# Altium footprint library BASIC Library.PCBLIB: 464 footprints (part 28 of 30)
Each footprint in its own frame and in the unit in brackets; x right, y up, seen from the top. Pads: shape width x height; smd on the part's side, far side on the other; paste and mask are expansions set on the pad; w line width, h text height; cw(c..) or ccw(c..) is an arc to the next point about the centre after c.
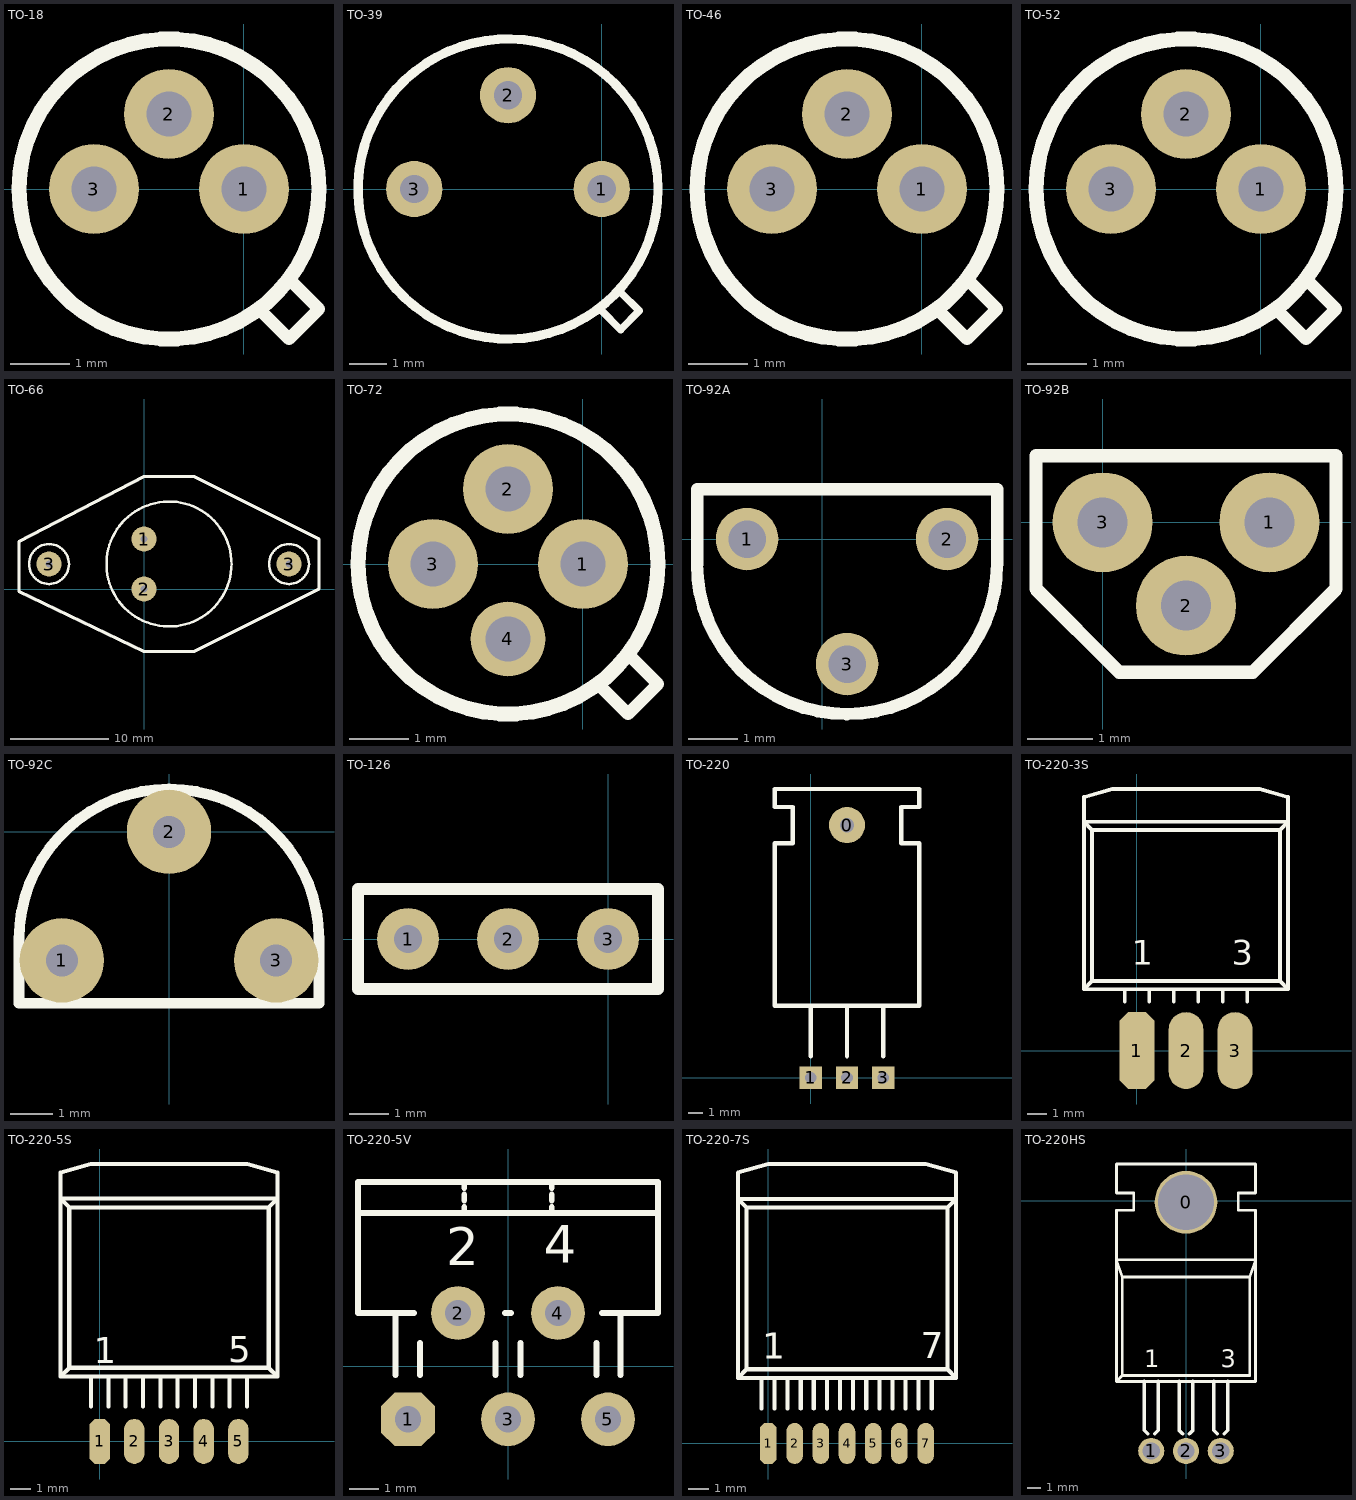
[diagram p27: the footprints below, top view; thin cyan lines are the x and y axes]

## TO-18 [mil]
pads (3):
  round 60 hole 30: 1(0,0) 2(-50,50) 3(-100,0)
TopOverlay:
  circle w10: c-50,0 r100
  lines w8: 10,-80 30,-100 50,-80 30,-60

## TO-39 [mil]
pads (3):
  round 60 hole 30: 1(0,0) 2(-100,100) 3(-200,0)
TopOverlay:
  circle w10: c-100,0 r160
  lines w8: 0,-130 20,-150 40,-130 20,-110

## TO-46 [mil]
pads (3):
  round 60 hole 30: 1(0,0) 2(-50,50) 3(-100,0)
TopOverlay:
  circle w10: c-50,0 r100
  lines w8: 10,-80 30,-100 50,-80 30,-60

## TO-52 [mil]
pads (3):
  round 60 hole 30: 1(0,0) 2(-50,50) 3(-100,0)
TopOverlay:
  circle w10: c-50,0 r100
  lines w8: 10,-80 30,-100 50,-80 30,-60

## TO-66 [mil]
pads (4):
  round 100 hole 28: 1(0,200) 2(0,0) 3(-380,100) 3(580,100)
TopOverlay:
  circle w10: c580,100 r80
  circle w10: c-380,100 r80
  circle w10: c100,100 r250
  lines w12: -500,-10 0,-250 200,-250 700,0 700,200 200,450 0,450 -500,190 -500,-10

## TO-72 [mil]
pads (4):
  round 60 hole 30: 1(0,0) 2(-50,50) 3(-100,0)
  round 50 hole 30: 4(-50,-50)
TopOverlay:
  circle w10: c-50,0 r100
  lines w8: 10,-80 30,-100 50,-80 30,-60

## TO-92A [mil]
pads (3):
  round 50 hole 30: 1(-60,0) 2(100,0) 3(20,-100)
TopOverlay:
  lines w10: -100,-20 ccw(c20,-20) 140,-20 140,40 -100,40 -100,-20

## TO-92B [mil]
pads (3):
  round 60 hole 30: 1(100,0) 2(50,-50) 3(0,0)
TopOverlay:
  lines w8: -40,-40 10,-90 90,-90 140,-40 140,40 -40,40 -40,-40

## TO-92C [mm]
pads (3):
  round 2 hole 0.762: 1(-2.54,-3.048) 2(0,0) 3(2.54,-3.048)
TopOverlay:
  lines w0.254: -3.556,-4.064 3.556,-4.064 3.556,-2.54 ccw(c0,-2.54) 0,1.016 ccw(c0,-2.54) -3.556,-2.54 -3.556,-4.064

## TO-126 [mil]
pads (3):
  round 62 hole 28: 1(-200,0) 2(-100,0) 3(0,0)
TopOverlay:
  lines w12: -250,-50 -250,50 50,50 50,-50 -250,-50

## TO-220 [mil]
pads (4):
  round 100 hole 40: 0(100,700)
  rect 62x62 hole 32: 1(0,0) 2(100,0) 3(200,0)
TopOverlay:
  lines w12: 0,60 0,200 ; 100,60 100,200 ; 200,60 200,200 ; -100,200 -100,650 -50,650 -50,750 -100,750 -100,800 300,800 300,750 250,750 250,650 300,650 300,200 -100,200

## TO-220-3S [mil]
pads (3):
  oct 70.83x156.67 smd: 1(0,0)
  oval 70.83x156.67 smd: 2(100,0) 3(200,0)
TopOverlay:
  lines w7.87: -25,100 -25,125 ; 25,100 25,125 ; 75,100 75,125 ; 125,100 125,125 ; 175,100 175,125 ; 225,100 225,125 ; -108.33,125 308.33,125 ; -108.33,125 -108.33,466.67 ; -108.33,125 -91.67,141.67 ; -108.33,466.67 308.33,466.67 ; -108.33,466.67 -108.33,516.67 -50,533.33 250,533.33 308.33,516.67 308.33,466.67 ; -108.33,466.67 -91.67,450 ; -91.67,141.67 -91.67,450 ; -91.67,141.67 291.67,141.67 ; -91.67,450 291.67,450 ; 291.67,141.67 291.67,450 ; 291.67,141.67 308.33,125 ; 291.67,450 308.33,466.67 ; 308.33,125 308.33,466.67
  text "3" at 193.03,175.05 h50
  text "1" at -10.26,175.05 h50

## TO-220-5S [mil]
pads (5):
  oct 39.17x86.67 smd: 1(0,0)
  oval 39.17x86.67 smd: 2(66.67,0) 3(133.33,0) 4(200,0) 5(266.67,0)
TopOverlay:
  lines w7.87: -16.67,66.93 -16.67,125 ; 16.67,66.93 16.67,125 ; 50,66.93 50,125 ; 83.33,66.93 83.33,125 ; 116.67,66.93 116.67,125 ; 150,66.93 150,125 ; 183.33,66.93 183.33,125 ; 216.67,66.93 216.67,125 ; 250,66.93 250,125 ; 283.33,66.93 283.33,125 ; -75,125 341.67,125 ; -75,125 -75,466.67 ; -75,125 -58.33,141.67 ; -75,466.67 341.67,466.67 ; -75,466.67 -75,516.67 -16.67,533.33 283.33,533.33 341.67,516.67 341.67,466.67 ; -75,466.67 -58.33,450 ; -58.33,141.67 -58.33,450 ; -58.33,141.67 325,141.67 ; -58.33,450 325,450 ; 325,141.67 325,450 ; 325,141.67 341.67,125 ; 325,450 341.67,466.67 ; 341.67,125 341.67,466.67
  text "1" at -11.1,150.8 h50
  text "5" at 247.1,151.89 h50

## TO-220-5V [mil]
pads (5):
  oct 71.67x71.67 hole 35: 1(-133.33,-70.83)
  round 71.67 hole 35: 2(-66.67,70.83) 3(0,-70.83) 4(66.67,70.83) 5(133.33,-70.83)
TopOverlay:
  lines w7.87: -200,204.17 200,204.17 ; -150,-11.78 -150,70.83 ; -125.46,70.83 -200,70.83 -200,245.83 200,245.83 200,70.83 125.46,70.83 ; -117.58,-11.78 -117.58,30.67 ; -58.33,204.17 -58.33,212.5 ; -58.33,220.83 -58.33,229.17 ; -58.33,237.5 -58.33,245.83 ; -16.67,-11.78 -16.67,30.67 ; -3.94,70.83 3.94,70.83 ; 16.67,-11.78 16.67,30.67 ; 58.33,204.17 58.33,212.5 ; 58.33,220.83 58.33,229.17 ; 58.33,237.5 58.33,245.83 ; 117.87,-11.78 117.87,30.67 ; 150,-11.78 150,70.83
  text "2" at -82.11,134.53 h50
  text "4" at 47.64,137.87 h50

## TO-220-7S [mil]
pads (7):
  oct 31.67x78.33 smd: 1(0,0)
  oval 31.67x78.33 smd: 2(50,0) 3(100,0) 4(150,0) 5(200,0) 6(250,0) 7(300,0)
TopOverlay:
  lines w7.87: -13.33,66.93 -13.33,125 ; 11.67,66.93 11.67,125 ; 36.67,66.93 36.67,125 ; 61.67,66.93 61.67,125 ; 86.67,66.93 86.67,125 ; 111.67,66.93 111.67,125 ; 136.67,66.93 136.67,125 ; 161.67,66.93 161.67,125 ; 186.67,66.93 186.67,125 ; 211.67,66.93 211.67,125 ; 236.67,66.93 236.67,125 ; 261.67,66.93 261.67,125 ; 286.67,66.93 286.67,125 ; 311.67,66.93 311.67,125 ; -58.33,125 -41.67,141.67 ; -58.33,125 -58.33,466.67 ; -58.33,125 358.33,125 ; -58.33,466.67 -41.67,450 ; -58.33,466.67 -58.33,516.67 0,533.33 300,533.33 358.33,516.67 358.33,466.67 ; -58.33,466.67 358.33,466.67 ; -41.67,141.67 341.67,141.67 ; -41.67,141.67 -41.67,450 ; -41.67,450 341.67,450 ; 341.67,141.67 358.33,125 ; 341.67,141.67 341.67,450 ; 341.67,450 358.33,466.67 ; 358.33,125 358.33,466.67
  text "7" at 290.27,162.98 h50
  text "1" at -11.5,161.9 h50

## TO-220HS [mil]
pads (4):
  round 180 hole 160: 0(0,-5)
  round 75 hole 50: 1(-100,-720) 2(0,-720) 3(100,-720)
TopOverlay:
  lines w7.87: -200,-520 -183.33,-503.33 ; -200,-520 200,-520 200,-128.33 200,-28.33 150,-28.33 150,21.67 200,21.67 200,105 -200,105 -200,21.67 -150,21.67 -150,-28.33 -200,-28.33 -200,-520 ; -183.33,-503.33 183.33,-503.33 183.33,-220 ; -183.33,-503.33 -183.33,-220 ; -183.33,-220 183.33,-220 ; -183.33,-220 -200,-170 200,-170 183.33,-220
  lines w10: -120,-520 -120,-660 -110,-670 ; -90,-670 -80,-660 -80,-520 ; -20,-520 -20,-660 -10,-670 ; 10,-670 20,-660 20,-520 ; 80,-520 80,-660 90,-670 ; 110,-670 120,-660 120,-520
  text "1" at -120,-480 h50
  text "3" at 100,-480 h50